# EAGLE library part 23XX1024 (library 000001)
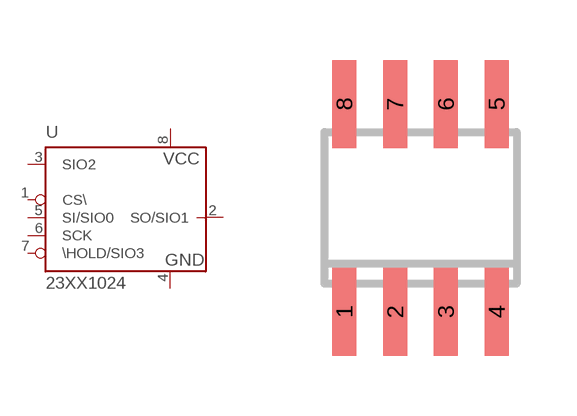
[diagram p129: symbol with the pads of SO-08; footprint SO-08]

Designator prefix -

## 23XX1024-I/SN  [SO-08]
1  CS\  in
2  SO/SIO1
3  SIO2  in
4  GND  pwr
5  SI/SIO0  in
6  SCK  in
7  \HOLD/SIO3  in
8  VDD  pwr

## Footprint SO-08 (pad centres in mm)
Small Outline Narrow Plastic Gull Wing 150-mil body, package type SN
smd 0.6 x 2.2: 1 -1.905,-2.6; 2 -0.635,-2.6; 3 0.635,-2.6; 4 1.905,-2.6; 5 1.905,2.6; 6 0.635,2.6; 7 -0.635,2.6; 8 -1.905,2.6